# Altium schematic symbol library 3.1 - STM32W系列单片机.SchLib: 13 symbols
Pins are listed as number, name and electrical type; pins without a type are passive.

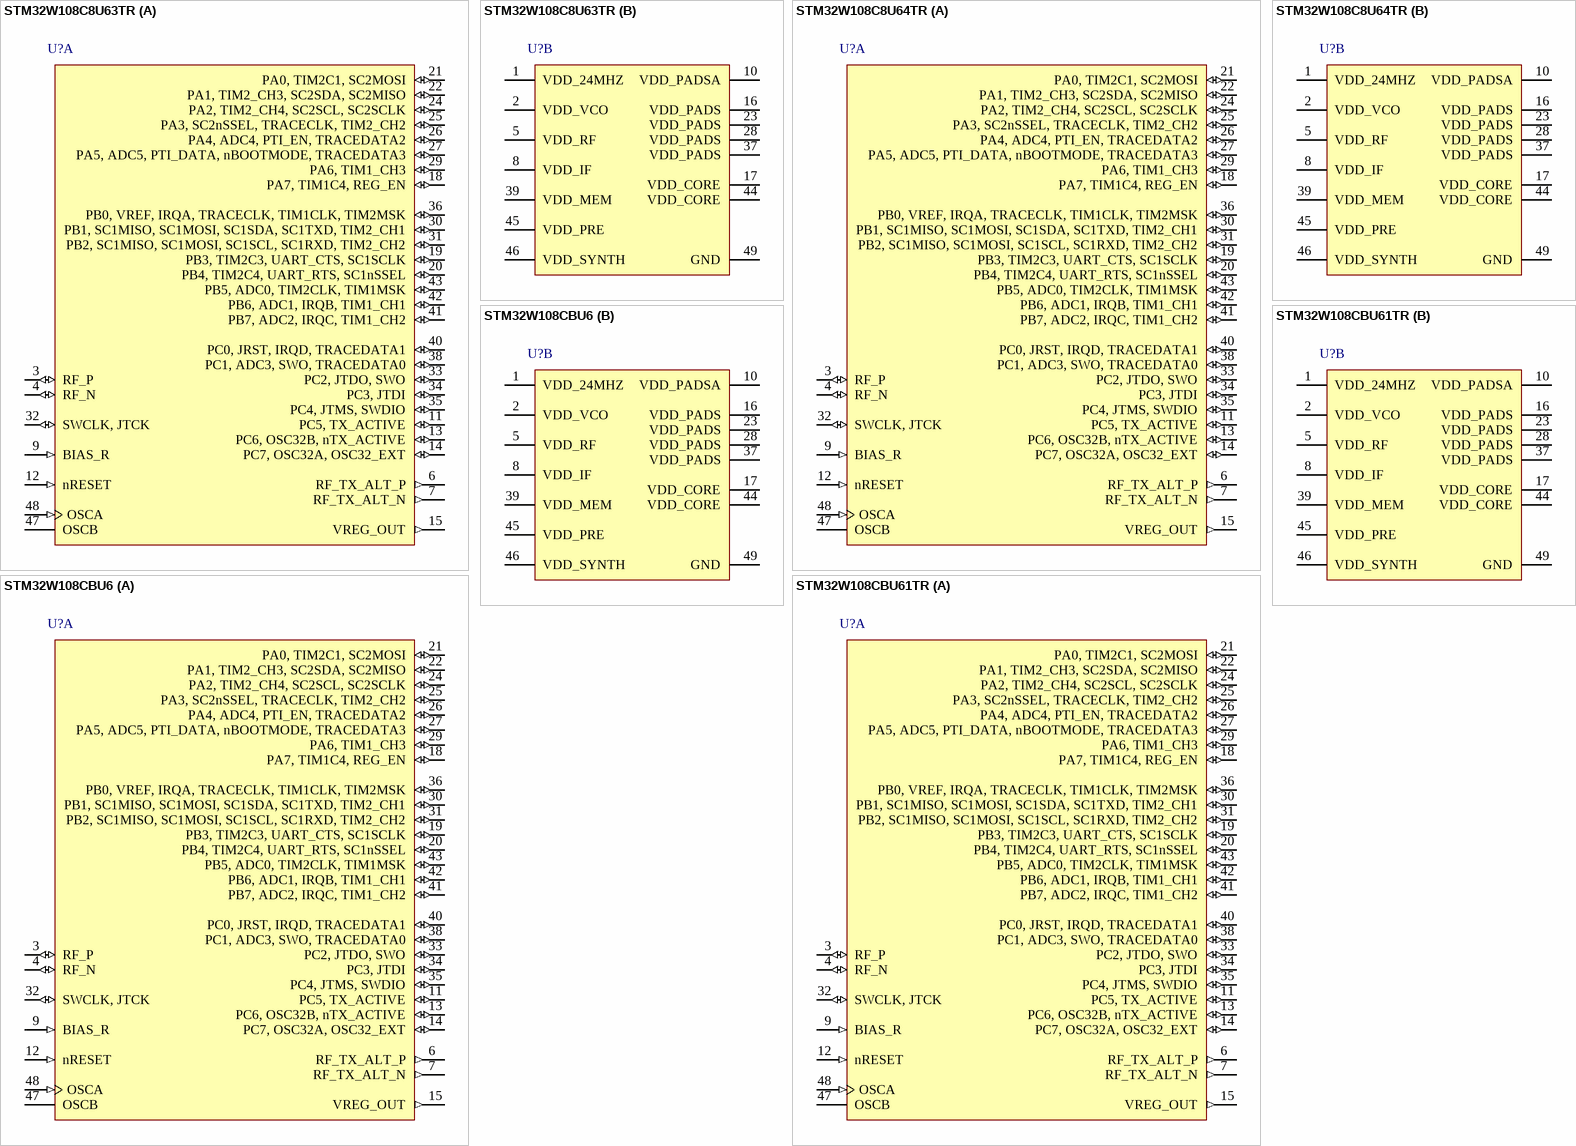
[diagram p0: symbols STM32W108C8U63TR to STM32W108CBU61TR]

## STM32W108C8U63TR
designator U?
STM32W ARM-based 32-bit RF MCU with RF4CE stack, 64 kB Flash, 8 kB Internal RAM, -40 to +85癈 Temperature, 48-pin QFN, Tape and Reel; 联系卖家，免费查找封装: 唯一出售店铺网址https://shop463601444.taobao.com; DatasheetVersion: rev1, May-2011; PackageVersion: 2011; PackageReference: VFQFPN48; PackageDescription: 48-Pin Quad Flat No-Lead, 7 x 7 x 0.9 mm Body, 0.5 mm Pitch, Exposed Pad; ComponentLink1Description: Manufacturer URL; ComponentLink1URL: http://www.st.com/; ComponentLink2Description: STM32W108C8 Datasheet; ComponentLink2URL: http://www.st.com/internet/com/TECHNICAL_RESOURCES/TECHNICAL_LITERATURE/DATASHEET/DM00024653.pdf; ComponentLink3Description: STM32W Web Page; ComponentLink3URL: http://www.st.com/internet/mcu/subclass/1377.jsp
footprint VFQFPN48_N (Manufacturer "STMicroelectronics" not found)
footprint VFQFPN48_L (QFN, 48-Leads, Body 7x7mm, Pitch 0.5mm, Thermal Pad 5.3x5.3mm, IPC High Density)
footprint VFQFPN48_M (QFN, 48-Leads, Body 7x7mm, Pitch 0.5mm, Thermal Pad 5.3x5.3mm, IPC Low Density)
part A pins: 3 RF_P (io), 4 RF_N (io), 6 RF_TX_ALT_P (out), 7 RF_TX_ALT_N (out), 9 BIAS_R (in), 11 PC5, TX_ACTIVE (io), 12 nRESET (in), 13 PC6, OSC32B, nTX_ACTIVE (io), 14 PC7, OSC32A, OSC32_EXT (io), 15 VREG_OUT (out), 18 PA7, TIM1C4, REG_EN (io), 19 PB3, TIM2C3, UART_CTS, SC1SCLK (io), 20 PB4, TIM2C4, UART_RTS, SC1nSSEL (io), 21 PA0, TIM2C1, SC2MOSI (io), 22 PA1, TIM2_CH3, SC2SDA, SC2MISO (io), 24 PA2, TIM2_CH4, SC2SCL, SC2SCLK (io), 25 PA3, SC2nSSEL, TRACECLK, TIM2_CH2 (io), 26 PA4, ADC4, PTI_EN, TRACEDATA2 (io), 27 PA5, ADC5, PTI_DATA, nBOOTMODE, TRACEDATA3 (io), 29 PA6, TIM1_CH3 (io), 30 PB1, SC1MISO, SC1MOSI, SC1SDA, SC1TXD, TIM2_CH1 (io), 31 PB2, SC1MISO, SC1MOSI, SC1SCL, SC1RXD, TIM2_CH2 (io), 32 SWCLK, JTCK (io), 33 PC2, JTDO, SWO (io), 34 PC3, JTDI (io), 35 PC4, JTMS, SWDIO (io), 36 PB0, VREF, IRQA, TRACECLK, TIM1CLK, TIM2MSK (io), 38 PC1, ADC3, SWO, TRACEDATA0 (io), 40 PC0, JRST, IRQD, TRACEDATA1 (io), 41 PB7, ADC2, IRQC, TIM1_CH2 (io), 42 PB6, ADC1, IRQB, TIM1_CH1 (io), 43 PB5, ADC0, TIM2CLK, TIM1MSK (io), 47 OSCB, 48 OSCA (in)
part B pins: 1 VDD_24MHZ (power), 2 VDD_VCO (power), 5 VDD_RF (power), 8 VDD_IF (power), 10 VDD_PADSA (power), 16 VDD_PADS (power), 17 VDD_CORE (power), 23 VDD_PADS (power), 28 VDD_PADS (power), 37 VDD_PADS (power), 39 VDD_MEM (power), 44 VDD_CORE (power), 45 VDD_PRE (power), 46 VDD_SYNTH (power), 49 GND (power)

## STM32W108C8U64TR
designator U?
STM32W ARM-based 32-bit RF MCU with IEEE 802.15.4 media access control, 64 kB Flash, 8 kB Internal RAM, -40 to +85癈 Temperature, 48-pin QFN, Tape and Reel; 联系卖家，免费查找封装: 唯一出售店铺网址https://shop463601444.taobao.com; DatasheetVersion: rev1, May-2011; PackageVersion: 2011; PackageReference: VFQFPN48; PackageDescription: 48-Pin Quad Flat No-Lead, 7 x 7 x 0.9 mm Body, 0.5 mm Pitch, Exposed Pad; ComponentLink1Description: Manufacturer URL; ComponentLink1URL: http://www.st.com/; ComponentLink2Description: STM32W108C8 Datasheet; ComponentLink2URL: http://www.st.com/internet/com/TECHNICAL_RESOURCES/TECHNICAL_LITERATURE/DATASHEET/DM00024653.pdf; ComponentLink3Description: STM32W Web Page; ComponentLink3URL: http://www.st.com/internet/mcu/subclass/1377.jsp
footprint VFQFPN48_N (Manufacturer "STMicroelectronics" not found)
footprint VFQFPN48_L (QFN, 48-Leads, Body 7x7mm, Pitch 0.5mm, Thermal Pad 5.3x5.3mm, IPC High Density)
footprint VFQFPN48_M (QFN, 48-Leads, Body 7x7mm, Pitch 0.5mm, Thermal Pad 5.3x5.3mm, IPC Low Density)
part A pins: 3 RF_P (io), 4 RF_N (io), 6 RF_TX_ALT_P (out), 7 RF_TX_ALT_N (out), 9 BIAS_R (in), 11 PC5, TX_ACTIVE (io), 12 nRESET (in), 13 PC6, OSC32B, nTX_ACTIVE (io), 14 PC7, OSC32A, OSC32_EXT (io), 15 VREG_OUT (out), 18 PA7, TIM1C4, REG_EN (io), 19 PB3, TIM2C3, UART_CTS, SC1SCLK (io), 20 PB4, TIM2C4, UART_RTS, SC1nSSEL (io), 21 PA0, TIM2C1, SC2MOSI (io), 22 PA1, TIM2_CH3, SC2SDA, SC2MISO (io), 24 PA2, TIM2_CH4, SC2SCL, SC2SCLK (io), 25 PA3, SC2nSSEL, TRACECLK, TIM2_CH2 (io), 26 PA4, ADC4, PTI_EN, TRACEDATA2 (io), 27 PA5, ADC5, PTI_DATA, nBOOTMODE, TRACEDATA3 (io), 29 PA6, TIM1_CH3 (io), 30 PB1, SC1MISO, SC1MOSI, SC1SDA, SC1TXD, TIM2_CH1 (io), 31 PB2, SC1MISO, SC1MOSI, SC1SCL, SC1RXD, TIM2_CH2 (io), 32 SWCLK, JTCK (io), 33 PC2, JTDO, SWO (io), 34 PC3, JTDI (io), 35 PC4, JTMS, SWDIO (io), 36 PB0, VREF, IRQA, TRACECLK, TIM1CLK, TIM2MSK (io), 38 PC1, ADC3, SWO, TRACEDATA0 (io), 40 PC0, JRST, IRQD, TRACEDATA1 (io), 41 PB7, ADC2, IRQC, TIM1_CH2 (io), 42 PB6, ADC1, IRQB, TIM1_CH1 (io), 43 PB5, ADC0, TIM2CLK, TIM1MSK (io), 47 OSCB, 48 OSCA (in)
part B pins: 1 VDD_24MHZ (power), 2 VDD_VCO (power), 5 VDD_RF (power), 8 VDD_IF (power), 10 VDD_PADSA (power), 16 VDD_PADS (power), 17 VDD_CORE (power), 23 VDD_PADS (power), 28 VDD_PADS (power), 37 VDD_PADS (power), 39 VDD_MEM (power), 44 VDD_CORE (power), 45 VDD_PRE (power), 46 VDD_SYNTH (power), 49 GND (power)

## STM32W108CBU6
designator U?
STM32W ARM-based 32-bit RF MCU with 128 kB Flash, 8 kB Internal RAM, -40 to +85癈 Temperature, 48-pin QFN, Tray; 联系卖家，免费查找封装: 唯一出售店铺网址https://shop463601444.taobao.com; DatasheetVersion: rev8, Apr-2011; PackageVersion: 2011; PackageReference: VFQFPN48; PackageDescription: 48-Pin Quad Flat No-Lead, 7 x 7 x 0.9 mm Body, 0.5 mm Pitch, Exposed Pad; ComponentLink1Description: Manufacturer URL; ComponentLink1URL: http://www.st.com/; ComponentLink2Description: STM32W108xx Datasheet; ComponentLink2URL: http://www.st.com/internet/com/TECHNICAL_RESOURCES/TECHNICAL_LITERATURE/DATASHEET/CD00248316.pdf; ComponentLink3Description: STM32W Web Page; ComponentLink3URL: http://www.st.com/internet/mcu/subclass/1377.jsp
footprint VFQFPN48_N (Manufacturer "STMicroelectronics" not found)
footprint VFQFPN48_L (QFN, 48-Leads, Body 7x7mm, Pitch 0.5mm, Thermal Pad 5.3x5.3mm, IPC High Density)
footprint VFQFPN48_M (QFN, 48-Leads, Body 7x7mm, Pitch 0.5mm, Thermal Pad 5.3x5.3mm, IPC Low Density)
part A pins: 3 RF_P (io), 4 RF_N (io), 6 RF_TX_ALT_P (out), 7 RF_TX_ALT_N (out), 9 BIAS_R (in), 11 PC5, TX_ACTIVE (io), 12 nRESET (in), 13 PC6, OSC32B, nTX_ACTIVE (io), 14 PC7, OSC32A, OSC32_EXT (io), 15 VREG_OUT (out), 18 PA7, TIM1C4, REG_EN (io), 19 PB3, TIM2C3, UART_CTS, SC1SCLK (io), 20 PB4, TIM2C4, UART_RTS, SC1nSSEL (io), 21 PA0, TIM2C1, SC2MOSI (io), 22 PA1, TIM2_CH3, SC2SDA, SC2MISO (io), 24 PA2, TIM2_CH4, SC2SCL, SC2SCLK (io), 25 PA3, SC2nSSEL, TRACECLK, TIM2_CH2 (io), 26 PA4, ADC4, PTI_EN, TRACEDATA2 (io), 27 PA5, ADC5, PTI_DATA, nBOOTMODE, TRACEDATA3 (io), 29 PA6, TIM1_CH3 (io), 30 PB1, SC1MISO, SC1MOSI, SC1SDA, SC1TXD, TIM2_CH1 (io), 31 PB2, SC1MISO, SC1MOSI, SC1SCL, SC1RXD, TIM2_CH2 (io), 32 SWCLK, JTCK (io), 33 PC2, JTDO, SWO (io), 34 PC3, JTDI (io), 35 PC4, JTMS, SWDIO (io), 36 PB0, VREF, IRQA, TRACECLK, TIM1CLK, TIM2MSK (io), 38 PC1, ADC3, SWO, TRACEDATA0 (io), 40 PC0, JRST, IRQD, TRACEDATA1 (io), 41 PB7, ADC2, IRQC, TIM1_CH2 (io), 42 PB6, ADC1, IRQB, TIM1_CH1 (io), 43 PB5, ADC0, TIM2CLK, TIM1MSK (io), 47 OSCB, 48 OSCA (in)
part B pins: 1 VDD_24MHZ (power), 2 VDD_VCO (power), 5 VDD_RF (power), 8 VDD_IF (power), 10 VDD_PADSA (power), 16 VDD_PADS (power), 17 VDD_CORE (power), 23 VDD_PADS (power), 28 VDD_PADS (power), 37 VDD_PADS (power), 39 VDD_MEM (power), 44 VDD_CORE (power), 45 VDD_PRE (power), 46 VDD_SYNTH (power), 49 GND (power)

## STM32W108CBU61TR
designator U?
STM32W ARM-based 32-bit RF MCU with Ember ZigBee stack, 128 kB Flash, 8 kB Internal RAM, -40 to +85癈 Temperature, 48-pin QFN, Tape and Reel; 联系卖家，免费查找封装: 唯一出售店铺网址https://shop463601444.taobao.com; DatasheetVersion: rev8, Apr-2011; PackageVersion: 2011; PackageReference: VFQFPN48; PackageDescription: 48-Pin Quad Flat No-Lead, 7 x 7 x 0.9 mm Body, 0.5 mm Pitch, Exposed Pad; ComponentLink1Description: Manufacturer URL; ComponentLink1URL: http://www.st.com/; ComponentLink2Description: STM32W108xx Datasheet; ComponentLink2URL: http://www.st.com/internet/com/TECHNICAL_RESOURCES/TECHNICAL_LITERATURE/DATASHEET/CD00248316.pdf; ComponentLink3Description: STM32W Web Page; ComponentLink3URL: http://www.st.com/internet/mcu/subclass/1377.jsp
footprint VFQFPN48_N (Manufacturer "STMicroelectronics" not found)
footprint VFQFPN48_L (QFN, 48-Leads, Body 7x7mm, Pitch 0.5mm, Thermal Pad 5.3x5.3mm, IPC High Density)
footprint VFQFPN48_M (QFN, 48-Leads, Body 7x7mm, Pitch 0.5mm, Thermal Pad 5.3x5.3mm, IPC Low Density)
part A pins: 3 RF_P (io), 4 RF_N (io), 6 RF_TX_ALT_P (out), 7 RF_TX_ALT_N (out), 9 BIAS_R (in), 11 PC5, TX_ACTIVE (io), 12 nRESET (in), 13 PC6, OSC32B, nTX_ACTIVE (io), 14 PC7, OSC32A, OSC32_EXT (io), 15 VREG_OUT (out), 18 PA7, TIM1C4, REG_EN (io), 19 PB3, TIM2C3, UART_CTS, SC1SCLK (io), 20 PB4, TIM2C4, UART_RTS, SC1nSSEL (io), 21 PA0, TIM2C1, SC2MOSI (io), 22 PA1, TIM2_CH3, SC2SDA, SC2MISO (io), 24 PA2, TIM2_CH4, SC2SCL, SC2SCLK (io), 25 PA3, SC2nSSEL, TRACECLK, TIM2_CH2 (io), 26 PA4, ADC4, PTI_EN, TRACEDATA2 (io), 27 PA5, ADC5, PTI_DATA, nBOOTMODE, TRACEDATA3 (io), 29 PA6, TIM1_CH3 (io), 30 PB1, SC1MISO, SC1MOSI, SC1SDA, SC1TXD, TIM2_CH1 (io), 31 PB2, SC1MISO, SC1MOSI, SC1SCL, SC1RXD, TIM2_CH2 (io), 32 SWCLK, JTCK (io), 33 PC2, JTDO, SWO (io), 34 PC3, JTDI (io), 35 PC4, JTMS, SWDIO (io), 36 PB0, VREF, IRQA, TRACECLK, TIM1CLK, TIM2MSK (io), 38 PC1, ADC3, SWO, TRACEDATA0 (io), 40 PC0, JRST, IRQD, TRACEDATA1 (io), 41 PB7, ADC2, IRQC, TIM1_CH2 (io), 42 PB6, ADC1, IRQB, TIM1_CH1 (io), 43 PB5, ADC0, TIM2CLK, TIM1MSK (io), 47 OSCB, 48 OSCA (in)
part B pins: 1 VDD_24MHZ (power), 2 VDD_VCO (power), 5 VDD_RF (power), 8 VDD_IF (power), 10 VDD_PADSA (power), 16 VDD_PADS (power), 17 VDD_CORE (power), 23 VDD_PADS (power), 28 VDD_PADS (power), 37 VDD_PADS (power), 39 VDD_MEM (power), 44 VDD_CORE (power), 45 VDD_PRE (power), 46 VDD_SYNTH (power), 49 GND (power)

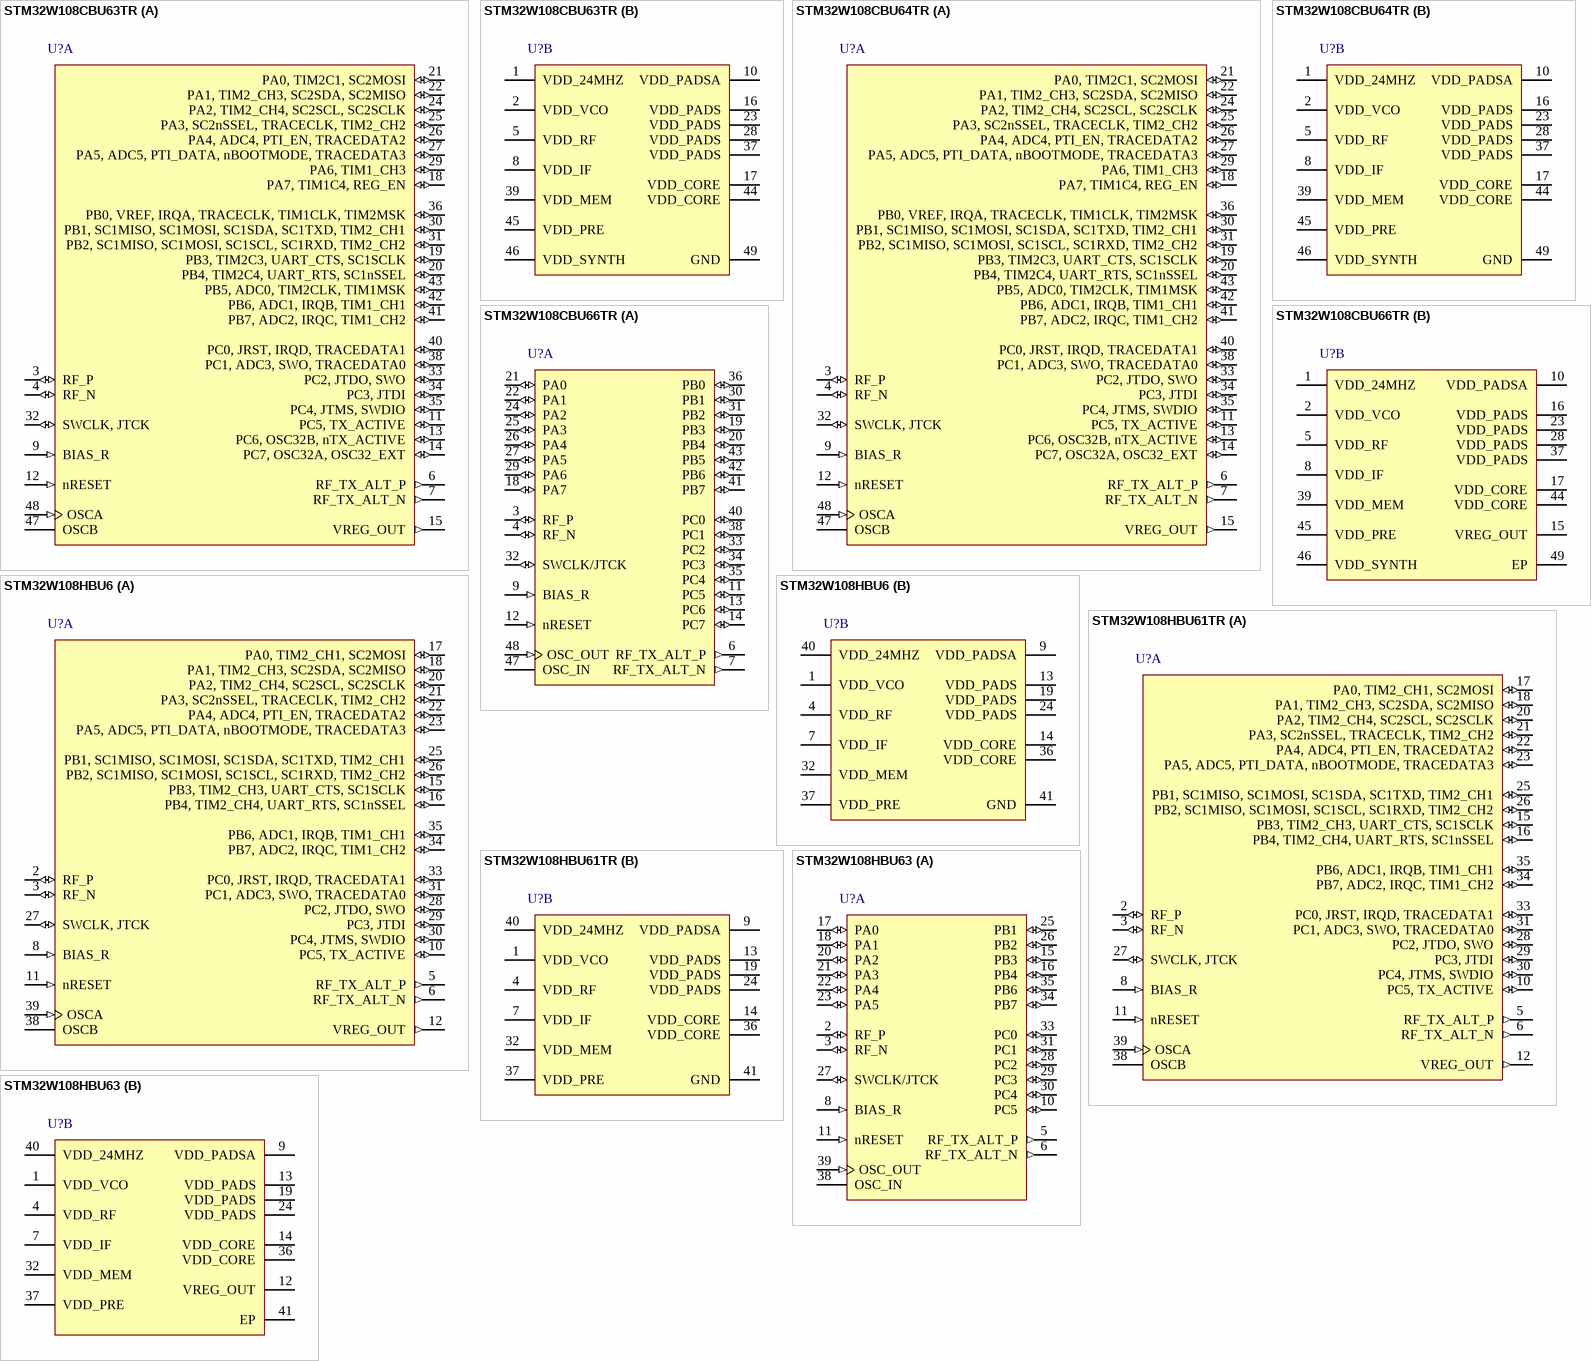
[diagram p1: symbols STM32W108CBU63TR to STM32W108HBU63]

## STM32W108CBU63TR
designator U?
STM32W ARM-based 32-bit RF MCU with RF4CE stack, 128 kB Flash, 8 kB Internal RAM, -40 to +85癈 Temperature, 48-pin QFN, Tape and Reel; 联系卖家，免费查找封装: 唯一出售店铺网址https://shop463601444.taobao.com; DatasheetVersion: rev8, Apr-2011; PackageVersion: 2011; PackageReference: VFQFPN48; PackageDescription: 48-Pin Quad Flat No-Lead, 7 x 7 x 0.9 mm Body, 0.5 mm Pitch, Exposed Pad; ComponentLink1Description: Manufacturer URL; ComponentLink1URL: http://www.st.com/; ComponentLink2Description: STM32W108xx Datasheet; ComponentLink2URL: http://www.st.com/internet/com/TECHNICAL_RESOURCES/TECHNICAL_LITERATURE/DATASHEET/CD00248316.pdf; ComponentLink3Description: STM32W Web Page; ComponentLink3URL: http://www.st.com/internet/mcu/subclass/1377.jsp
footprint VFQFPN48_N (Manufacturer "STMicroelectronics" not found)
footprint VFQFPN48_L (QFN, 48-Leads, Body 7x7mm, Pitch 0.5mm, Thermal Pad 5.3x5.3mm, IPC High Density)
footprint VFQFPN48_M (QFN, 48-Leads, Body 7x7mm, Pitch 0.5mm, Thermal Pad 5.3x5.3mm, IPC Low Density)
part A pins: 3 RF_P (io), 4 RF_N (io), 6 RF_TX_ALT_P (out), 7 RF_TX_ALT_N (out), 9 BIAS_R (in), 11 PC5, TX_ACTIVE (io), 12 nRESET (in), 13 PC6, OSC32B, nTX_ACTIVE (io), 14 PC7, OSC32A, OSC32_EXT (io), 15 VREG_OUT (out), 18 PA7, TIM1C4, REG_EN (io), 19 PB3, TIM2C3, UART_CTS, SC1SCLK (io), 20 PB4, TIM2C4, UART_RTS, SC1nSSEL (io), 21 PA0, TIM2C1, SC2MOSI (io), 22 PA1, TIM2_CH3, SC2SDA, SC2MISO (io), 24 PA2, TIM2_CH4, SC2SCL, SC2SCLK (io), 25 PA3, SC2nSSEL, TRACECLK, TIM2_CH2 (io), 26 PA4, ADC4, PTI_EN, TRACEDATA2 (io), 27 PA5, ADC5, PTI_DATA, nBOOTMODE, TRACEDATA3 (io), 29 PA6, TIM1_CH3 (io), 30 PB1, SC1MISO, SC1MOSI, SC1SDA, SC1TXD, TIM2_CH1 (io), 31 PB2, SC1MISO, SC1MOSI, SC1SCL, SC1RXD, TIM2_CH2 (io), 32 SWCLK, JTCK (io), 33 PC2, JTDO, SWO (io), 34 PC3, JTDI (io), 35 PC4, JTMS, SWDIO (io), 36 PB0, VREF, IRQA, TRACECLK, TIM1CLK, TIM2MSK (io), 38 PC1, ADC3, SWO, TRACEDATA0 (io), 40 PC0, JRST, IRQD, TRACEDATA1 (io), 41 PB7, ADC2, IRQC, TIM1_CH2 (io), 42 PB6, ADC1, IRQB, TIM1_CH1 (io), 43 PB5, ADC0, TIM2CLK, TIM1MSK (io), 47 OSCB, 48 OSCA (in)
part B pins: 1 VDD_24MHZ (power), 2 VDD_VCO (power), 5 VDD_RF (power), 8 VDD_IF (power), 10 VDD_PADSA (power), 16 VDD_PADS (power), 17 VDD_CORE (power), 23 VDD_PADS (power), 28 VDD_PADS (power), 37 VDD_PADS (power), 39 VDD_MEM (power), 44 VDD_CORE (power), 45 VDD_PRE (power), 46 VDD_SYNTH (power), 49 GND (power)

## STM32W108CBU64TR
designator U?
STM32W ARM-based 32-bit RF MCU with IEEE 802.15.4 media access control, 128 kB Flash, 8 kB Internal RAM, -40 to +85癈 Temperature, 48-pin QFN, Tape and Reel; 联系卖家，免费查找封装: 唯一出售店铺网址https://shop463601444.taobao.com; DatasheetVersion: rev8, Apr-2011; PackageVersion: 2011; PackageReference: VFQFPN48; PackageDescription: 48-Pin Quad Flat No-Lead, 7 x 7 x 0.9 mm Body, 0.5 mm Pitch, Exposed Pad; ComponentLink1Description: Manufacturer URL; ComponentLink1URL: http://www.st.com/; ComponentLink2Description: STM32W108xx Datasheet; ComponentLink2URL: http://www.st.com/internet/com/TECHNICAL_RESOURCES/TECHNICAL_LITERATURE/DATASHEET/CD00248316.pdf; ComponentLink3Description: STM32W Web Page; ComponentLink3URL: http://www.st.com/internet/mcu/subclass/1377.jsp
footprint VFQFPN48_N (Manufacturer "STMicroelectronics" not found)
footprint VFQFPN48_L (QFN, 48-Leads, Body 7x7mm, Pitch 0.5mm, Thermal Pad 5.3x5.3mm, IPC High Density)
footprint VFQFPN48_M (QFN, 48-Leads, Body 7x7mm, Pitch 0.5mm, Thermal Pad 5.3x5.3mm, IPC Low Density)
part A pins: 3 RF_P (io), 4 RF_N (io), 6 RF_TX_ALT_P (out), 7 RF_TX_ALT_N (out), 9 BIAS_R (in), 11 PC5, TX_ACTIVE (io), 12 nRESET (in), 13 PC6, OSC32B, nTX_ACTIVE (io), 14 PC7, OSC32A, OSC32_EXT (io), 15 VREG_OUT (out), 18 PA7, TIM1C4, REG_EN (io), 19 PB3, TIM2C3, UART_CTS, SC1SCLK (io), 20 PB4, TIM2C4, UART_RTS, SC1nSSEL (io), 21 PA0, TIM2C1, SC2MOSI (io), 22 PA1, TIM2_CH3, SC2SDA, SC2MISO (io), 24 PA2, TIM2_CH4, SC2SCL, SC2SCLK (io), 25 PA3, SC2nSSEL, TRACECLK, TIM2_CH2 (io), 26 PA4, ADC4, PTI_EN, TRACEDATA2 (io), 27 PA5, ADC5, PTI_DATA, nBOOTMODE, TRACEDATA3 (io), 29 PA6, TIM1_CH3 (io), 30 PB1, SC1MISO, SC1MOSI, SC1SDA, SC1TXD, TIM2_CH1 (io), 31 PB2, SC1MISO, SC1MOSI, SC1SCL, SC1RXD, TIM2_CH2 (io), 32 SWCLK, JTCK (io), 33 PC2, JTDO, SWO (io), 34 PC3, JTDI (io), 35 PC4, JTMS, SWDIO (io), 36 PB0, VREF, IRQA, TRACECLK, TIM1CLK, TIM2MSK (io), 38 PC1, ADC3, SWO, TRACEDATA0 (io), 40 PC0, JRST, IRQD, TRACEDATA1 (io), 41 PB7, ADC2, IRQC, TIM1_CH2 (io), 42 PB6, ADC1, IRQB, TIM1_CH1 (io), 43 PB5, ADC0, TIM2CLK, TIM1MSK (io), 47 OSCB, 48 OSCA (in)
part B pins: 1 VDD_24MHZ (power), 2 VDD_VCO (power), 5 VDD_RF (power), 8 VDD_IF (power), 10 VDD_PADSA (power), 16 VDD_PADS (power), 17 VDD_CORE (power), 23 VDD_PADS (power), 28 VDD_PADS (power), 37 VDD_PADS (power), 39 VDD_MEM (power), 44 VDD_CORE (power), 45 VDD_PRE (power), 46 VDD_SYNTH (power), 49 GND (power)

## STM32W108CBU66TR
designator U?
ARM Cortex-M3 32-bit MCU, 128 KB Flash, 8 KB Internal RAM, 24 I/Os, 48-pin UFQFPN, -40 to 85 degC, Tape and Reel; 联系卖家，免费查找封装: 唯一出售店铺网址https://shop463601444.taobao.com; PackageReference: UFQFPN48; PackageDescription: 48-Pin Ultra Thin Fine Pitch Quad Flat No-Lead, 7 x 7 x 0.6 mm Body, 0.5 mm Pitch, Exposed Pad; ComponentLink2Description: Datasheet
footprint UFQFPN48_N (QFN, 48-Leads, Body 7x7mm, Pitch 0.5mm, Thermal Pad 5.6x5.6mm, IPC Medium Density)
footprint UFQFPN48_L (QFN, 48-Leads, Body 7x7mm, Pitch 0.5mm, Thermal Pad 5.6x5.6mm, IPC High Density)
footprint UFQFPN48_M (QFN, 48-Leads, Body 7x7mm, Pitch 0.5mm, Thermal Pad 5.6x5.6mm, IPC Low Density)
part A pins: 3 RF_P (io) "Differential (with RF_N) receiver input/transmitter output", 4 RF_N (io) "Differential (with RF_P) receiver input/transmitter output", 6 RF_TX_ALT_P (out) "Differential (with RF_TX_ALT_N) transmitter output (optional)", 7 RF_TX_ALT_N (out) "Differential (with RF_TX_ALT_P) transmitter output (optional)", 9 BIAS_R (in) "Bias setting resistor", 11 PC5 (io) "PC5/TX_ACTIVE", 12 nRESET (in) "Active low chip reset (internal pull-up)", 13 PC6 (io) "PC6/OSC32_IN/nTX_ACTIVE", 14 PC7 (io) "PC7/OSC32_OUT/OSC32_EXT", 18 PA7 (io) "PA7/TIM1_CH4/REG_EN", 19 PB3 (io) "PB3/TIM2_CH3/UART_CTS/SC1SCLK", 20 PB4 (io) "PB4/TIM2_CH4/UART_RTS/SC1nSSEL", 21 PA0 (io) "PA0/TIM2_CH1/SC2MOSI", 22 PA1 (io) "PA1/TIM2_CH3/SC2SDA/SC2MISO", 24 PA2 (io) "PA2/TIM2_CH4/SC2SCL/SC2SCLK", 25 PA3 (io) "PA3/SC2nSSEL/TRACECLK/TIM2_CH2", 26 PA4 (io) "PA4/ADC4/PTI_EN/TRACEDATA2", 27 PA5 (io) "PA5/ADC5/PTI_DATA/nBOOTMODE/TRACEDATA3", 29 PA6 (io) "PA6/TIM1_CH3", 30 PB1 (io) "PB1/SC1MISO/SC1MOSI/SC1SDA/SC1TXD/TIM2_CH1", 31 PB2 (io) "PB2/SC1MISO/SC1MOSI/SC1SCL/SC1RXD/TIM2_CH2", 32 SWCLK/JTCK (io), 33 PC2 (io) "PC2/JTDO/SWO", 34 PC3 (io) "PC3/JTDI", 35 PC4 (io) "PC4/JTMS/SWDIO", 36 PB0 (io) "PB0/VREF/IRQA/TRACECLK/TIM1CLK/TIM2MSK", 38 PC1 (io) "PC1/ADC3/SWO/TRACEDATA0", 40 PC0 (io) "PC0/JRST/IRQD/TRACEDATA1", 41 PB7 (io) "PB7/ADC2/IRQC/TIM1_CH2", 42 PB6 (io) "PB6/ADC1/IRQB/TIM1_CH1", 43 PB5 (io) "PB5/ADC0/TIM2CLK/TIM1MSK", 47 OSC_IN "24 MHz HSE OSC or left open when using external clock input on OSC_OUT", 48 OSC_OUT (in) "24 MHz HSE OSC or external clock input"
part B pins: 1 VDD_24MHZ (power) "1.8 V high-frequency oscillator supply", 2 VDD_VCO (power) "1.8 V VCO supply", 5 VDD_RF (power) "1.8 V RF supply (LNA and PA)", 8 VDD_IF (power) "1.8 V IF supply (mixers and filters)", 10 VDD_PADSA (power) "Analog pad supply(1.8 V)", 15 VREG_OUT (power) "Regulator output (1.8 V while awake,0 V during deep sleep)", 16 VDD_PADS (power) "Pads supply (2.1-3.6 V)", 17 VDD_CORE (power) "1.25 V digital core supply decoupling", 23 VDD_PADS (power) "Pads supply(2.1-3.6 V)", 28 VDD_PADS (power) "Pads supply (2.1-3.6 V)", 37 VDD_PADS (power) "Pads supply (2.1to3.6 V).", 39 VDD_MEM (power) "1.8 V supply (Flash, RAM)", 44 VDD_CORE (power) "1.25 V digital core supply decoupling", 45 VDD_PRE (power) "1.8 V prescaler supply", 46 VDD_SYNTH (power) "1.8 V synthesizer supply", 49 EP (power) "Ground supply pad in the bottom center of the package."

## STM32W108HBU6
designator U?
STM32W ARM-based 32-bit RF MCU with 128 kB Flash, 8 kB Internal RAM, -40 to +85癈 Temperature, 40-pin QFN, Tray; 联系卖家，免费查找封装: 唯一出售店铺网址https://shop463601444.taobao.com; DatasheetVersion: rev8, Apr-2011; PackageVersion: 2011; PackageReference: VFQFPN40; PackageDescription: 36-Pin Quad Flat No-Lead, 6 x 6 X 1.0 mm Body, 0.5 mm Pitch, Exposed Pad; ComponentLink1Description: Manufacturer URL; ComponentLink1URL: http://www.st.com/; ComponentLink2Description: STM32W108xx Datasheet; ComponentLink2URL: http://www.st.com/internet/com/TECHNICAL_RESOURCES/TECHNICAL_LITERATURE/DATASHEET/CD00248316.pdf; ComponentLink3Description: STM32W Web Page; ComponentLink3URL: http://www.st.com/internet/mcu/subclass/1377.jsp
footprint VFQFPN40_N (Manufacturer "STMicroelectronics" not found)
footprint VFQFPN40_L (QFN, 40-Leads, Body 6x6mm, Pitch 0.5mm, Thermal Pad 4.7x4.7mm, IPC High Density)
footprint VFQFPN40_M (QFN, 40-Leads, Body 6x6mm, Pitch 0.5mm, Thermal Pad 4.7x4.7mm, IPC Low Density)
part A pins: 2 RF_P (io), 3 RF_N (io), 5 RF_TX_ALT_P (out), 6 RF_TX_ALT_N (out), 8 BIAS_R (in), 10 PC5, TX_ACTIVE (io), 11 nRESET (in), 12 VREG_OUT (out), 15 PB3, TIM2_CH3, UART_CTS, SC1SCLK (io), 16 PB4, TIM2_CH4, UART_RTS, SC1nSSEL (io), 17 PA0, TIM2_CH1, SC2MOSI (io), 18 PA1, TIM2_CH3, SC2SDA, SC2MISO (io), 20 PA2, TIM2_CH4, SC2SCL, SC2SCLK (io), 21 PA3, SC2nSSEL, TRACECLK, TIM2_CH2 (io), 22 PA4, ADC4, PTI_EN, TRACEDATA2 (io), 23 PA5, ADC5, PTI_DATA, nBOOTMODE, TRACEDATA3 (io), 25 PB1, SC1MISO, SC1MOSI, SC1SDA, SC1TXD, TIM2_CH1 (io), 26 PB2, SC1MISO, SC1MOSI, SC1SCL, SC1RXD, TIM2_CH2 (io), 27 SWCLK, JTCK (io), 28 PC2, JTDO, SWO (io), 29 PC3, JTDI (io), 30 PC4, JTMS, SWDIO (io), 31 PC1, ADC3, SWO, TRACEDATA0 (io), 33 PC0, JRST, IRQD, TRACEDATA1 (io), 34 PB7, ADC2, IRQC, TIM1_CH2 (io), 35 PB6, ADC1, IRQB, TIM1_CH1 (io), 38 OSCB, 39 OSCA (in)
part B pins: 1 VDD_VCO (power), 4 VDD_RF (power), 7 VDD_IF (power), 9 VDD_PADSA (power), 13 VDD_PADS (power), 14 VDD_CORE (power), 19 VDD_PADS (power), 24 VDD_PADS (power), 32 VDD_MEM (power), 36 VDD_CORE (power), 37 VDD_PRE (power), 40 VDD_24MHZ (power), 41 GND (power)

## STM32W108HBU61TR
designator U?
STM32W ARM-based 32-bit RF MCU with Ember ZigBee stack, 128 kB Flash, 8 kB Internal RAM, -40 to +85癈 Temperature, 40-pin QFN, Tape and Reel; 联系卖家，免费查找封装: 唯一出售店铺网址https://shop463601444.taobao.com; DatasheetVersion: rev8, Apr-2011; PackageVersion: 2011; PackageReference: VFQFPN40; PackageDescription: 36-Pin Quad Flat No-Lead, 6 x 6 X 1.0 mm Body, 0.5 mm Pitch, Exposed Pad; ComponentLink1Description: Manufacturer URL; ComponentLink1URL: http://www.st.com/; ComponentLink2Description: STM32W108xx Datasheet; ComponentLink2URL: http://www.st.com/internet/com/TECHNICAL_RESOURCES/TECHNICAL_LITERATURE/DATASHEET/CD00248316.pdf; ComponentLink3Description: STM32W Web Page; ComponentLink3URL: http://www.st.com/internet/mcu/subclass/1377.jsp
footprint VFQFPN40_N (Manufacturer "STMicroelectronics" not found)
footprint VFQFPN40_L (QFN, 40-Leads, Body 6x6mm, Pitch 0.5mm, Thermal Pad 4.7x4.7mm, IPC High Density)
footprint VFQFPN40_M (QFN, 40-Leads, Body 6x6mm, Pitch 0.5mm, Thermal Pad 4.7x4.7mm, IPC Low Density)
part A pins: 2 RF_P (io), 3 RF_N (io), 5 RF_TX_ALT_P (out), 6 RF_TX_ALT_N (out), 8 BIAS_R (in), 10 PC5, TX_ACTIVE (io), 11 nRESET (in), 12 VREG_OUT (out), 15 PB3, TIM2_CH3, UART_CTS, SC1SCLK (io), 16 PB4, TIM2_CH4, UART_RTS, SC1nSSEL (io), 17 PA0, TIM2_CH1, SC2MOSI (io), 18 PA1, TIM2_CH3, SC2SDA, SC2MISO (io), 20 PA2, TIM2_CH4, SC2SCL, SC2SCLK (io), 21 PA3, SC2nSSEL, TRACECLK, TIM2_CH2 (io), 22 PA4, ADC4, PTI_EN, TRACEDATA2 (io), 23 PA5, ADC5, PTI_DATA, nBOOTMODE, TRACEDATA3 (io), 25 PB1, SC1MISO, SC1MOSI, SC1SDA, SC1TXD, TIM2_CH1 (io), 26 PB2, SC1MISO, SC1MOSI, SC1SCL, SC1RXD, TIM2_CH2 (io), 27 SWCLK, JTCK (io), 28 PC2, JTDO, SWO (io), 29 PC3, JTDI (io), 30 PC4, JTMS, SWDIO (io), 31 PC1, ADC3, SWO, TRACEDATA0 (io), 33 PC0, JRST, IRQD, TRACEDATA1 (io), 34 PB7, ADC2, IRQC, TIM1_CH2 (io), 35 PB6, ADC1, IRQB, TIM1_CH1 (io), 38 OSCB, 39 OSCA (in)
part B pins: 1 VDD_VCO (power), 4 VDD_RF (power), 7 VDD_IF (power), 9 VDD_PADSA (power), 13 VDD_PADS (power), 14 VDD_CORE (power), 19 VDD_PADS (power), 24 VDD_PADS (power), 32 VDD_MEM (power), 36 VDD_CORE (power), 37 VDD_PRE (power), 40 VDD_24MHZ (power), 41 GND (power)

## STM32W108HBU63
designator U?
ARM Cortex-M3 32-bit MCU, 128 KB Flash, 8 KB Internal RAM, 18 I/Os, 40-pin VFQFPN, -40 to 85 degC, Tray; 联系卖家，免费查找封装: 唯一出售店铺网址https://shop463601444.taobao.com; PackageReference: VFQFPN40; PackageDescription: 40-Pin Quad Flat No-Lead, 6 x 6 x 1.0 mm Body, 0.5 mm Pitch, Exposed Pad; ComponentLink2Description: Datasheet
footprint VFQFPN40_N (QFN, 40-Leads, Body 6x6mm, Pitch 0.5mm, Thermal Pad 4.7x4.7mm, IPC Medium Density)
footprint VFQFPN40_L (QFN, 40-Leads, Body 6x6mm, Pitch 0.5mm, Thermal Pad 4.7x4.7mm, IPC High Density)
footprint VFQFPN40_M (QFN, 40-Leads, Body 6x6mm, Pitch 0.5mm, Thermal Pad 4.7x4.7mm, IPC Low Density)
part A pins: 2 RF_P (io) "Differential (with RF_N) receiver input/transmitter output", 3 RF_N (io) "Differential (with RF_P) receiver input/transmitter output", 5 RF_TX_ALT_P (out) "Differential (with RF_TX_ALT_N) transmitter output (optional)", 6 RF_TX_ALT_N (out) "Differential (with RF_TX_ALT_P) transmitter output (optional)", 8 BIAS_R (in) "Bias setting resistor", 10 PC5 (io) "PC5/TX_ACTIVE", 11 nRESET (in) "Active low chip reset (internal pull-up)", 15 PB3 (io) "PB3/TIM2_CH3/UART_CTS/SC1SCLK", 16 PB4 (io) "PB4/TIM2_CH4/UART_RTS/SC1nSSEL", 17 PA0 (io) "PA0/TIM2_CH1/SC2MOSI", 18 PA1 (io) "PA1/TIM2_CH3/SC2SDA/SC2MISO", 20 PA2 (io) "PA2/TIM2_CH4/SC2SCL/SC2SCLK", 21 PA3 (io) "PA3/SC2nSSEL/TRACECLK/TIM2_CH2", 22 PA4 (io) "PA4/ADC4/PTI_EN/TRACEDATA2", 23 PA5 (io) "PA5/ADC5/PTI_DATA/nBOOTMODE/TRACEDATA3", 25 PB1 (io) "PB1/SC1MISO/SC1MOSI/SC1SDA/SC1TXD/TIM2_CH1", 26 PB2 (io) "PB2/SC1MISO/SC1MOSI/SC1SCL/SC1RXD/TIM2_CH2", 27 SWCLK/JTCK (io), 28 PC2 (io) "PC2/JTDO/SWO", 29 PC3 (io) "PC3/JTDI", 30 PC4 (io) "PC4/JTMS/SWDIO", 31 PC1 (io) "PC1/ADC3/SWO/TRACEDATA0", 33 PC0 (io) "PC0/JRST/IRQD/TRACEDATA1", 34 PB7 (io) "PB7/ADC2/IRQC/TIM1_CH2", 35 PB6 (io) "PB6/ADC1/IRQB/TIM1_CH1", 38 OSC_IN "24 MHz HSE OSC or left open when using external clock input on OSC_OUT", 39 OSC_OUT (in) "24 MHz HSE OSC or external clock input"
part B pins: 1 VDD_VCO (power) "1.8V VCO supply", 4 VDD_RF (power) "1.8V RF supply (LNA and PA)", 7 VDD_IF (power) "1.8V IF supply (mixers and filters)", 9 VDD_PADSA (power) "Analog pad supply (1.8V)", 12 VREG_OUT (power) "Regulator output (1.8 V while awake, 0 V during deep sleep)", 13 VDD_PADS (power) "Pads supply (2.1-3.6 V)", 14 VDD_CORE (power) "1.25 V digital core supply decoupling", 19 VDD_PADS (power) "Pads supply (2.1-3.6V)", 24 VDD_PADS (power) "Pads supply (2.1-3.6 V)", 32 VDD_MEM (power) "1.8 V supply (Flash, RAM)", 36 VDD_CORE (power) "1.25 V digital core supply decoupling", 37 VDD_PRE (power) "1.8 V prescaler supply", 40 VDD_24MHZ (power) "1.8V high-frequency oscillator supply", 41 EP (power) "Ground supply pad in the bottom center of the package."

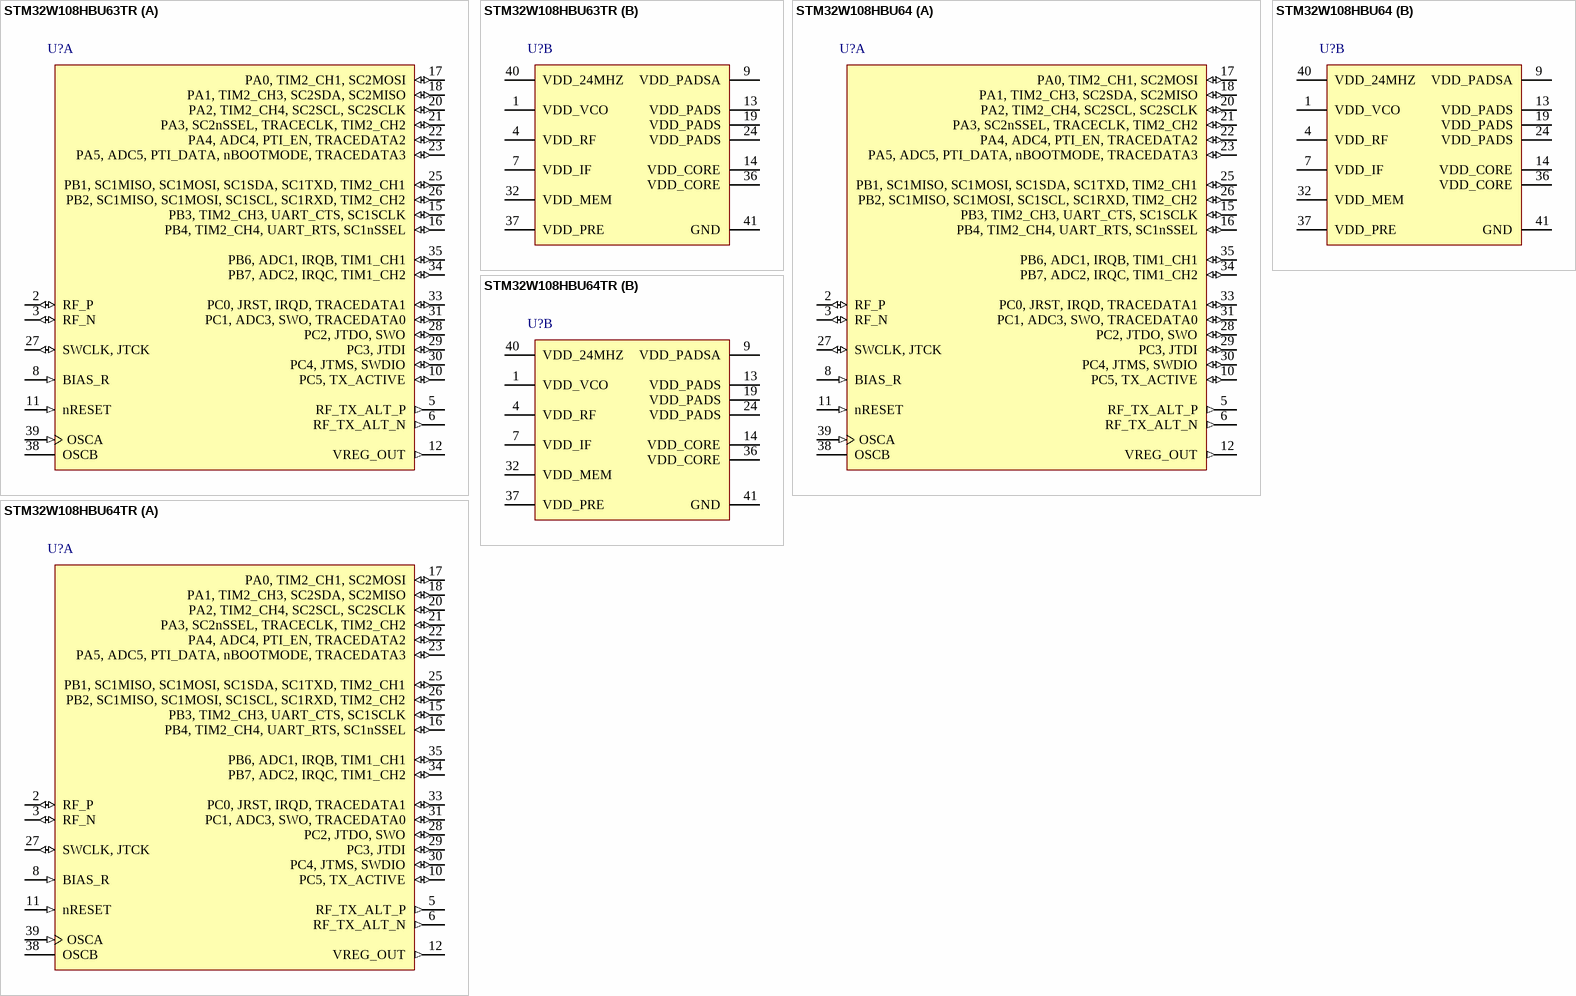
[diagram p2: symbols STM32W108HBU63TR to STM32W108HBU64TR]

## STM32W108HBU63TR
designator U?
STM32W ARM-based 32-bit RF MCU with RF4CE stack, 128 kB Flash, 8 kB Internal RAM, -40 to +85癈 Temperature, 40-pin QFN, Tape and Reel; 联系卖家，免费查找封装: 唯一出售店铺网址https://shop463601444.taobao.com; DatasheetVersion: rev8, Apr-2011; PackageVersion: 2011; PackageReference: VFQFPN40; PackageDescription: 36-Pin Quad Flat No-Lead, 6 x 6 X 1.0 mm Body, 0.5 mm Pitch, Exposed Pad; ComponentLink1Description: Manufacturer URL; ComponentLink1URL: http://www.st.com/; ComponentLink2Description: STM32W108xx Datasheet; ComponentLink2URL: http://www.st.com/internet/com/TECHNICAL_RESOURCES/TECHNICAL_LITERATURE/DATASHEET/CD00248316.pdf; ComponentLink3Description: STM32W Web Page; ComponentLink3URL: http://www.st.com/internet/mcu/subclass/1377.jsp
footprint VFQFPN40_N (Manufacturer "STMicroelectronics" not found)
footprint VFQFPN40_L (QFN, 40-Leads, Body 6x6mm, Pitch 0.5mm, Thermal Pad 4.7x4.7mm, IPC High Density)
footprint VFQFPN40_M (QFN, 40-Leads, Body 6x6mm, Pitch 0.5mm, Thermal Pad 4.7x4.7mm, IPC Low Density)
part A pins: 2 RF_P (io), 3 RF_N (io), 5 RF_TX_ALT_P (out), 6 RF_TX_ALT_N (out), 8 BIAS_R (in), 10 PC5, TX_ACTIVE (io), 11 nRESET (in), 12 VREG_OUT (out), 15 PB3, TIM2_CH3, UART_CTS, SC1SCLK (io), 16 PB4, TIM2_CH4, UART_RTS, SC1nSSEL (io), 17 PA0, TIM2_CH1, SC2MOSI (io), 18 PA1, TIM2_CH3, SC2SDA, SC2MISO (io), 20 PA2, TIM2_CH4, SC2SCL, SC2SCLK (io), 21 PA3, SC2nSSEL, TRACECLK, TIM2_CH2 (io), 22 PA4, ADC4, PTI_EN, TRACEDATA2 (io), 23 PA5, ADC5, PTI_DATA, nBOOTMODE, TRACEDATA3 (io), 25 PB1, SC1MISO, SC1MOSI, SC1SDA, SC1TXD, TIM2_CH1 (io), 26 PB2, SC1MISO, SC1MOSI, SC1SCL, SC1RXD, TIM2_CH2 (io), 27 SWCLK, JTCK (io), 28 PC2, JTDO, SWO (io), 29 PC3, JTDI (io), 30 PC4, JTMS, SWDIO (io), 31 PC1, ADC3, SWO, TRACEDATA0 (io), 33 PC0, JRST, IRQD, TRACEDATA1 (io), 34 PB7, ADC2, IRQC, TIM1_CH2 (io), 35 PB6, ADC1, IRQB, TIM1_CH1 (io), 38 OSCB, 39 OSCA (in)
part B pins: 1 VDD_VCO (power), 4 VDD_RF (power), 7 VDD_IF (power), 9 VDD_PADSA (power), 13 VDD_PADS (power), 14 VDD_CORE (power), 19 VDD_PADS (power), 24 VDD_PADS (power), 32 VDD_MEM (power), 36 VDD_CORE (power), 37 VDD_PRE (power), 40 VDD_24MHZ (power), 41 GND (power)

## STM32W108HBU64
designator U?
STM32W ARM-based 32-bit RF MCU with IEEE 802.15.4 media access control, 128 kB Flash, 8 kB Internal RAM, -40 to +85癈 Temperature, 40-pin QFN, Tray; 联系卖家，免费查找封装: 唯一出售店铺网址https://shop463601444.taobao.com; DatasheetVersion: rev8, Apr-2011; PackageVersion: 2011; PackageReference: VFQFPN40; PackageDescription: 36-Pin Quad Flat No-Lead, 6 x 6 X 1.0 mm Body, 0.5 mm Pitch, Exposed Pad; ComponentLink1Description: Manufacturer URL; ComponentLink1URL: http://www.st.com/; ComponentLink2Description: STM32W108xx Datasheet; ComponentLink2URL: http://www.st.com/internet/com/TECHNICAL_RESOURCES/TECHNICAL_LITERATURE/DATASHEET/CD00248316.pdf; ComponentLink3Description: STM32W Web Page; ComponentLink3URL: http://www.st.com/internet/mcu/subclass/1377.jsp
footprint VFQFPN40_N (Manufacturer "STMicroelectronics" not found)
footprint VFQFPN40_L (QFN, 40-Leads, Body 6x6mm, Pitch 0.5mm, Thermal Pad 4.7x4.7mm, IPC High Density)
footprint VFQFPN40_M (QFN, 40-Leads, Body 6x6mm, Pitch 0.5mm, Thermal Pad 4.7x4.7mm, IPC Low Density)
part A pins: 2 RF_P (io), 3 RF_N (io), 5 RF_TX_ALT_P (out), 6 RF_TX_ALT_N (out), 8 BIAS_R (in), 10 PC5, TX_ACTIVE (io), 11 nRESET (in), 12 VREG_OUT (out), 15 PB3, TIM2_CH3, UART_CTS, SC1SCLK (io), 16 PB4, TIM2_CH4, UART_RTS, SC1nSSEL (io), 17 PA0, TIM2_CH1, SC2MOSI (io), 18 PA1, TIM2_CH3, SC2SDA, SC2MISO (io), 20 PA2, TIM2_CH4, SC2SCL, SC2SCLK (io), 21 PA3, SC2nSSEL, TRACECLK, TIM2_CH2 (io), 22 PA4, ADC4, PTI_EN, TRACEDATA2 (io), 23 PA5, ADC5, PTI_DATA, nBOOTMODE, TRACEDATA3 (io), 25 PB1, SC1MISO, SC1MOSI, SC1SDA, SC1TXD, TIM2_CH1 (io), 26 PB2, SC1MISO, SC1MOSI, SC1SCL, SC1RXD, TIM2_CH2 (io), 27 SWCLK, JTCK (io), 28 PC2, JTDO, SWO (io), 29 PC3, JTDI (io), 30 PC4, JTMS, SWDIO (io), 31 PC1, ADC3, SWO, TRACEDATA0 (io), 33 PC0, JRST, IRQD, TRACEDATA1 (io), 34 PB7, ADC2, IRQC, TIM1_CH2 (io), 35 PB6, ADC1, IRQB, TIM1_CH1 (io), 38 OSCB, 39 OSCA (in)
part B pins: 1 VDD_VCO (power), 4 VDD_RF (power), 7 VDD_IF (power), 9 VDD_PADSA (power), 13 VDD_PADS (power), 14 VDD_CORE (power), 19 VDD_PADS (power), 24 VDD_PADS (power), 32 VDD_MEM (power), 36 VDD_CORE (power), 37 VDD_PRE (power), 40 VDD_24MHZ (power), 41 GND (power)

## STM32W108HBU64TR
designator U?
STM32W ARM-based 32-bit RF MCU with IEEE 802.15.4 media access control, 128 kB Flash, 8 kB Internal RAM, -40 to +85癈 Temperature, 40-pin QFN, Tape and Reel; 联系卖家，免费查找封装: 唯一出售店铺网址https://shop463601444.taobao.com; DatasheetVersion: rev8, Apr-2011; PackageVersion: 2011; PackageReference: VFQFPN40; PackageDescription: 36-Pin Quad Flat No-Lead, 6 x 6 X 1.0 mm Body, 0.5 mm Pitch, Exposed Pad; ComponentLink1Description: Manufacturer URL; ComponentLink1URL: http://www.st.com/; ComponentLink2Description: STM32W108xx Datasheet; ComponentLink2URL: http://www.st.com/internet/com/TECHNICAL_RESOURCES/TECHNICAL_LITERATURE/DATASHEET/CD00248316.pdf; ComponentLink3Description: STM32W Web Page; ComponentLink3URL: http://www.st.com/internet/mcu/subclass/1377.jsp
footprint VFQFPN40_N (Manufacturer "STMicroelectronics" not found)
footprint VFQFPN40_L (QFN, 40-Leads, Body 6x6mm, Pitch 0.5mm, Thermal Pad 4.7x4.7mm, IPC High Density)
footprint VFQFPN40_M (QFN, 40-Leads, Body 6x6mm, Pitch 0.5mm, Thermal Pad 4.7x4.7mm, IPC Low Density)
part A pins: 2 RF_P (io), 3 RF_N (io), 5 RF_TX_ALT_P (out), 6 RF_TX_ALT_N (out), 8 BIAS_R (in), 10 PC5, TX_ACTIVE (io), 11 nRESET (in), 12 VREG_OUT (out), 15 PB3, TIM2_CH3, UART_CTS, SC1SCLK (io), 16 PB4, TIM2_CH4, UART_RTS, SC1nSSEL (io), 17 PA0, TIM2_CH1, SC2MOSI (io), 18 PA1, TIM2_CH3, SC2SDA, SC2MISO (io), 20 PA2, TIM2_CH4, SC2SCL, SC2SCLK (io), 21 PA3, SC2nSSEL, TRACECLK, TIM2_CH2 (io), 22 PA4, ADC4, PTI_EN, TRACEDATA2 (io), 23 PA5, ADC5, PTI_DATA, nBOOTMODE, TRACEDATA3 (io), 25 PB1, SC1MISO, SC1MOSI, SC1SDA, SC1TXD, TIM2_CH1 (io), 26 PB2, SC1MISO, SC1MOSI, SC1SCL, SC1RXD, TIM2_CH2 (io), 27 SWCLK, JTCK (io), 28 PC2, JTDO, SWO (io), 29 PC3, JTDI (io), 30 PC4, JTMS, SWDIO (io), 31 PC1, ADC3, SWO, TRACEDATA0 (io), 33 PC0, JRST, IRQD, TRACEDATA1 (io), 34 PB7, ADC2, IRQC, TIM1_CH2 (io), 35 PB6, ADC1, IRQB, TIM1_CH1 (io), 38 OSCB, 39 OSCA (in)
part B pins: 1 VDD_VCO (power), 4 VDD_RF (power), 7 VDD_IF (power), 9 VDD_PADSA (power), 13 VDD_PADS (power), 14 VDD_CORE (power), 19 VDD_PADS (power), 24 VDD_PADS (power), 32 VDD_MEM (power), 36 VDD_CORE (power), 37 VDD_PRE (power), 40 VDD_24MHZ (power), 41 GND (power)